# Altium schematic symbol library RP.Schlib: 1 symbol
Pins are listed as number, name and electrical type; pins without a type are passive.

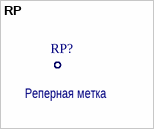
[diagram p0: symbol RP]

## RP
designator RP?  Наименование: Реперная метка  (hidden comment: RP)
Назначение: реперная метка для автоматического монтажа
footprint ReperPoint (Reper)